# Altium integrated library LM2596T-5.0_LF03.IntLib: 1 symbol
Pins are listed as number, name and electrical type; pins without a type are passive.

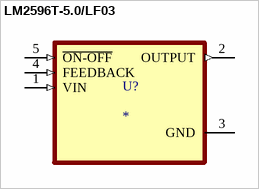
[diagram p0: symbol LM2596T-5.0/LF03]

## LM2596T-5.0/LF03
designator U?
SIMPLE SWITCHERÂ® 4.5V to 40V, 3A Low Component Count Step-Down Regulator; MF: Texas Instruments; MP: LM2596T-5.0/LF03; SnapEDA_Link: https://www.snapeda.com/parts/LM2596T-5.0/LF03/Texas+Instruments/view-part/?ref=snap; Package: TO-220-5 Texas Instruments; Value: *; Check_prices: https://www.snapeda.com/parts/LM2596T-5.0/LF03/Texas+Instruments/view-part/?ref=eda
footprint TO170P1016X470X2092-5
pins: 1 VIN (in), 2 OUTPUT (out), 3 GND (power), 4 FEEDBACK (in), 5 ~{ON-OFF} (in)